# Altium schematic symbol library Capacitors-0402.SchLib: 34 symbols
Pins are listed as number, name and electrical type; pins without a type are passive.

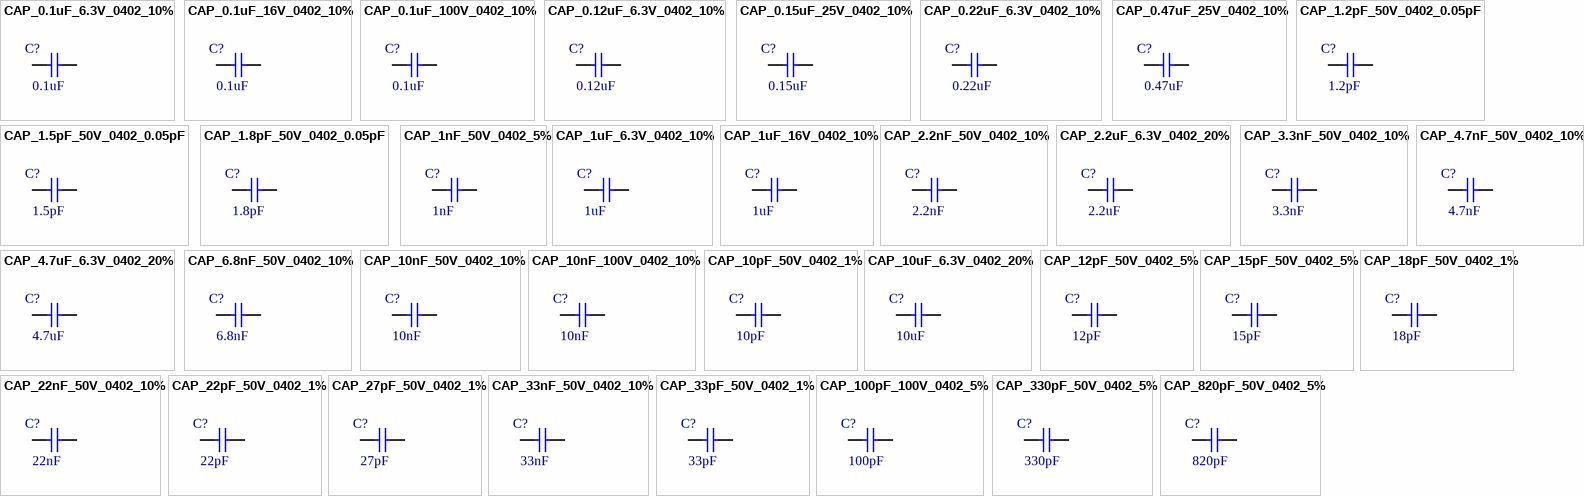
[diagram p0: symbols CAP_0.1uF_6.3V_0402_10% to CAP_820pF_50V_0402_5%]

## CAP_0.1uF_6.3V_0402_10%
designator C?, comment value 0.1uF  (hidden comment: 0.1uF 6.3V 0402)
0.1uF 6.3V 10% 0402 (1005 Metric); PartNumber: GRM155R70J104KA01D; Manufacturer: Murata; Mounting Technology: Surface Mount; PackageReference: 0402; PackageDescription: 0402 (1005 Metric); Voltage: 6.3V; Tolerance: 10%
footprint C0402[1005X55] (Chip Capacitor, Body 1.0x0.5mm)
pins: 1, 2

## CAP_0.1uF_16V_0402_10%
designator C?, comment value 0.1uF  (hidden comment: 0.1uF 16V 0402)
0.1uF 16V 10% 0402 (1005 Metric); PartNumber: GRM155R70J104KA01D; Manufacturer: Murata; Voltage: 6.3V; Mounting Technology: Surface Mount; PackageReference: 0402; PackageDescription: 0402 (1005 Metric); Tolerance: 10%
footprint C0402[1005X55] (Chip Capacitor, Body 1.0x0.5mm)
pins: 1, 2

## CAP_0.1uF_100V_0402_10%
designator C?, comment value 0.1uF  (hidden comment: 0.1uF 100V 0402)
0.1uF 100V 10% 0402 (1005 Metric); PartNumber: GRM155R62A104KE14D; Manufacturer: Murata; Mounting Technology: Surface Mount; PackageReference: 0402; PackageDescription: 0402 (1005 Metric); Voltage: 100V; Tolerance: 10%
footprint C0402[1005X55] (Chip Capacitor, Body 1.0x0.5mm)
pins: 1, 2

## CAP_0.12uF_6.3V_0402_10%
designator C?, comment value 0.12uF  (hidden comment: 0.12uF 6.3V 0402)
0.12uF 6.3V 10% 0402 (1005 Metric); PartNumber: GRM155R60J124KE01D; Manufacturer: Murata; Mounting Technology: Surface Mount; PackageReference: 0402; PackageDescription: 0402 (1005 Metric); Voltage: 6.3V; Tolerance: 10%
footprint C0402[1005X55] (Chip Capacitor, Body 1.0x0.5mm)
pins: 1, 2

## CAP_0.15uF_25V_0402_10%
designator C?, comment value 0.15uF  (hidden comment: 0.15uF 25V 0402)
0.15uF 25V 10% 0402 (1005 Metric); PartNumber: C1005X6S1E154K050BC; Manufacturer: TDK; Mounting Technology: Surface Mount; PackageReference: 0402; PackageDescription: 0402 (1005 Metric); Voltage: 25V; Tolerance: 10%
footprint C0402[1005X55] (Chip Capacitor, Body 1.0x0.5mm)
pins: 1, 2

## CAP_0.22uF_6.3V_0402_10%
designator C?, comment value 0.22uF  (hidden comment: 0.22uF 6.3V 0402)
0.22uF 6.3V 10% 0402 (1005 Metric); PartNumber: JMK105BJ224KV-F; Manufacturer: Taiyo Yuden; Mounting Technology: Surface Mount; PackageReference: 0402; PackageDescription: 0402 (1005 Metric); Voltage: 6.3V; Tolerance: 10%
footprint C0402[1005X55] (Chip Capacitor, Body 1.0x0.5mm)
pins: 1, 2

## CAP_0.47uF_25V_0402_10%
designator C?, comment value 0.47uF  (hidden comment: 0.47uF 25V 0402)
0.47uF 25V 10% 0402 (1005 Metric); PartNumber: GRM155R61E474KE01D; Manufacturer: Murata; Mounting Technology: Surface Mount; PackageReference: 0402; PackageDescription: 0402 (1005 Metric); Voltage: 25V; Tolerance: 10%
footprint C0402[1005X55] (Chip Capacitor, Body 1.0x0.5mm)
pins: 1, 2

## CAP_1.2pF_50V_0402_0.05pF
designator C?, comment value 1.2pF  (hidden comment: 1.2pF 50V 0402)
1.2pF 50V 0.05pF 0402 (1005 Metric); PartNumber: GRM1555C1H1R2WA01D; Manufacturer: Murata; Mounting Technology: Surface Mount; PackageReference: 0402; PackageDescription: 0402 (1005 Metric); Voltage: 50V; Tolerance: 0.05pF
footprint C0402[1005X55] (Chip Capacitor, Body 1.0x0.5mm)
pins: 1, 2

## CAP_1.5pF_50V_0402_0.05pF
designator C?, comment value 1.5pF  (hidden comment: 1.5pF 50V 0402)
1.5pF 50V 0.05pF 0402 (1005 Metric); PartNumber: GRM1555C1H1R5WA01D; Manufacturer: Murata; Mounting Technology: Surface Mount; PackageReference: 0402; PackageDescription: 0402 (1005 Metric); Voltage: 50V; Tolerance: 0.05pF
footprint C0402[1005X55] (Chip Capacitor, Body 1.0x0.5mm)
pins: 1, 2

## CAP_1.8pF_50V_0402_0.05pF
designator C?, comment value 1.8pF  (hidden comment: 1.8pF 50V 0402)
1.8pF 50V 0.05pF 0402 (1005 Metric); PartNumber: GRM1555C1H1R8WA01D; Manufacturer: Murata; Mounting Technology: Surface Mount; PackageReference: 0402; PackageDescription: 0402 (1005 Metric); Voltage: 50V; Tolerance: 0.05pF
footprint C0402[1005X55] (Chip Capacitor, Body 1.0x0.5mm)
pins: 1, 2

## CAP_1nF_50V_0402_5%
designator C?, comment value 1nF  (hidden comment: 1nF 50V 0402)
1nF 50V 5% 0402 (1005 Metric); PartNumber: GRM1555C1H102JA01D; Manufacturer: Murata; Mounting Technology: Surface Mount; PackageReference: 0402; PackageDescription: 0402 (1005 Metric); Voltage: 50V; Tolerance: 5%
footprint C0402[1005X55] (Chip Capacitor, Body 1.0x0.5mm)
pins: 1, 2

## CAP_1uF_6.3V_0402_10%
designator C?, comment value 1uF  (hidden comment: 1uF 6.3V 0402)
1uF 6.3V 10% 0402 (1005 Metric); PartNumber: GRM155R70J105KA12D; Manufacturer: Murata; Mounting Technology: Surface Mount; PackageReference: 0402; PackageDescription: 0402 (1005 Metric); Voltage: 6.3V; Tolerance: 10%
footprint C0402[1005X55] (Chip Capacitor, Body 1.0x0.5mm)
pins: 1, 2

## CAP_1uF_16V_0402_10%
designator C?, comment value 1uF  (hidden comment: 1uF 16V 0402)
1uF 16V 10% 0402 (1005 Metric); PartNumber: GRM155R61C105KE01D; Manufacturer: Murata; Mounting Technology: Surface Mount; PackageReference: 0402; PackageDescription: 0402 (1005 Metric); Voltage: 16V; Tolerance: 10%
footprint C0402[1005X55] (Chip Capacitor, Body 1.0x0.5mm)
pins: 1, 2

## CAP_2.2nF_50V_0402_10%
designator C?, comment value 2.2nF  (hidden comment: 2.2nF 50V 0402)
2.2nF 50V 10% 0402 (1005 Metric); PartNumber: GCM155R71H222KA37D; Manufacturer: Murata; Mounting Technology: Surface Mount; PackageReference: 0402; PackageDescription: 0402 (1005 Metric); Voltage: 50V; Tolerance: 10%
footprint C0402[1005X55] (Chip Capacitor, Body 1.0x0.5mm)
pins: 1, 2

## CAP_2.2uF_6.3V_0402_20%
designator C?, comment value 2.2uF  (hidden comment: 2.2uF 6.3V 0402)
2.2uF 6.3V 20% 0402 (1005 Metric); PartNumber: GRM155R60J225ME15D; Manufacturer: Murata; Mounting Technology: Surface Mount; PackageReference: 0402; PackageDescription: 0402 (1005 Metric); Voltage: 6.3V; Tolerance: 20%
footprint C0402[1005X55] (Chip Capacitor, Body 1.0x0.5mm)
pins: 1, 2

## CAP_3.3nF_50V_0402_10%
designator C?, comment value 3.3nF  (hidden comment: 3.3nF 50V 0402)
3.3nF 50V 10% 0402 (1005 Metric); PartNumber: GRM155R71H332KA01D; Manufacturer: Murata; Mounting Technology: Surface Mount; PackageReference: 0402; PackageDescription: 0402 (1005 Metric); Voltage: 50V; Tolerance: 10%
footprint C0402[1005X55] (Chip Capacitor, Body 1.0x0.5mm)
pins: 1, 2

## CAP_4.7nF_50V_0402_10%
designator C?, comment value 4.7nF  (hidden comment: 4.7nF 50V 0402)
4.7nF 50V 10% 0402 (1005 Metric); PartNumber: GRM155R71H472KA01D; Manufacturer: Murata; Mounting Technology: Surface Mount; PackageReference: 0402; PackageDescription: 0402 (1005 Metric); Voltage: 50V; Tolerance: 10%
footprint C0402[1005X55] (Chip Capacitor, Body 1.0x0.5mm)
pins: 1, 2

## CAP_4.7uF_6.3V_0402_20%
designator C?, comment value 4.7uF  (hidden comment: 4.7uF 6.3V 0402)
4.7uF 6.3V 20% 0402 (1005 Metric); PartNumber: GRM155R60J475ME47D; Manufacturer: Murata; Mounting Technology: Surface Mount; PackageReference: 0402; PackageDescription: 0402 (1005 Metric); Voltage: 6.3V; Tolerance: 20%
footprint C0402[1005X55] (Chip Capacitor, Body 1.0x0.5mm)
pins: 1, 2

## CAP_6.8nF_50V_0402_10%
designator C?, comment value 6.8nF  (hidden comment: 6.8nF 50V 0402)
6.8nF 50V 10% 0402 (1005 Metric); PartNumber: GRM155R71H682KA88J; Manufacturer: Murata; Mounting Technology: Surface Mount; PackageReference: 0402; PackageDescription: 0402 (1005 Metric); Voltage: 50V; Tolerance: 10%
footprint C0402[1005X55] (Chip Capacitor, Body 1.0x0.5mm)
pins: 1, 2

## CAP_10nF_50V_0402_10%
designator C?, comment value 10nF  (hidden comment: 10nF 50V 0402)
10nF 50V 10% 0402 (1005 Metric); PartNumber: GCM155R71H103KA55D; Manufacturer: Murata; Mounting Technology: Surface Mount; PackageReference: 0402; PackageDescription: 0402 (1005 Metric); Voltage: 50V; Tolerance: 10%
footprint C0402[1005X55] (Chip Capacitor, Body 1.0x0.5mm)
pins: 1, 2

## CAP_10nF_100V_0402_10%
designator C?, comment value 10nF  (hidden comment: 10nF 100V 0402)
10nF 100V 10% 0402 (1005 Metric); PartNumber: C1005X7S2A103K050BB; Manufacturer: TDK; Mounting Technology: Surface Mount; PackageReference: 0402; PackageDescription: 0402 (1005 Metric); Voltage: 100V; Tolerance: 10%
footprint C0402[1005X55] (Chip Capacitor, Body 1.0x0.5mm)
pins: 1, 2

## CAP_10pF_50V_0402_1%
designator C?, comment value 10pF  (hidden comment: 10pF 50V 0402)
10pF 50V 1% 0402 (1005 Metric); PartNumber: GRM1555C1H100FA01D; Manufacturer: Murata; Mounting Technology: Surface Mount; PackageReference: 0402; PackageDescription: 0402 (1005 Metric); Voltage: 50V; Tolerance: 1%
footprint C0402[1005X55] (Chip Capacitor, Body 1.0x0.5mm)
pins: 1, 2

## CAP_10uF_6.3V_0402_20%
designator C?, comment value 10uF  (hidden comment: 10uF 6.3V 0402)
10uF 6.3V 20% 0402 (1005 Metric); PartNumber: GRM155R60J106ME44D; Manufacturer: Murata; Mounting Technology: Surface Mount; PackageReference: 0402; PackageDescription: 0402 (1005 Metric); Voltage: 6.3V; Tolerance: 20%
footprint C0402[1005X55] (Chip Capacitor, Body 1.0x0.5mm)
pins: 1, 2

## CAP_12pF_50V_0402_5%
designator C?, comment value 12pF  (hidden comment: 12pF 50V 0402)
12pF 50V 5% 0402 (1005 Metric); PartNumber: GRM1555C1H120JA01D; Manufacturer: Murata; Mounting Technology: Surface Mount; PackageReference: 0402; PackageDescription: 0402 (1005 Metric); Voltage: 50V; Tolerance: 5%
footprint C0402[1005X55] (Chip Capacitor, Body 1.0x0.5mm)
pins: 1, 2

## CAP_15pF_50V_0402_5%
designator C?, comment value 15pF  (hidden comment: 15pF 50V 0402)
15pF 50V 5% 0402 (1005 Metric); PartNumber: GRM1555C1H150JA01D; Manufacturer: Murata; Mounting Technology: Surface Mount; PackageReference: 0402; PackageDescription: 0402 (1005 Metric); Voltage: 50V; Tolerance: 5%
footprint C0402[1005X55] (Chip Capacitor, Body 1.0x0.5mm)
pins: 1, 2

## CAP_18pF_50V_0402_1%
designator C?, comment value 18pF  (hidden comment: 18pF 50V 0402)
18pF 50V 1% 0402 (1005 Metric); PartNumber: GRM1555C1H180FA01D; Manufacturer: Murata; Mounting Technology: Surface Mount; PackageReference: 0402; PackageDescription: 0402 (1005 Metric); Voltage: 50V; Tolerance: 1%
footprint C0402[1005X55] (Chip Capacitor, Body 1.0x0.5mm)
pins: 1, 2

## CAP_22nF_50V_0402_10%
designator C?, comment value 22nF  (hidden comment: 22nF 50V 0402)
22nF 50V 10% 0402 (1005 Metric); PartNumber: GRM155R71H223KA12J; Manufacturer: Murata; Mounting Technology: Surface Mount; PackageReference: 0402; PackageDescription: 0402 (1005 Metric); Voltage: 50V; Tolerance: 10%
footprint C0402[1005X55] (Chip Capacitor, Body 1.0x0.5mm)
pins: 1, 2

## CAP_22pF_50V_0402_1%
designator C?, comment value 22pF  (hidden comment: 22pF 50V 0402)
22pF 50V 1% 0402 (1005 Metric); PartNumber: GRM1555C1H220FA01D; Manufacturer: Murata; Mounting Technology: Surface Mount; PackageReference: 0402; PackageDescription: 0402 (1005 Metric); Voltage: 50V; Tolerance: 1%
footprint C0402[1005X55] (Chip Capacitor, Body 1.0x0.5mm)
pins: 1, 2

## CAP_27pF_50V_0402_1%
designator C?, comment value 27pF  (hidden comment: 27pF 50V 0402)
27pF 50V 1% 0402 (1005 Metric); PartNumber: GRM1555C1H270FA01D; Manufacturer: Murata; Mounting Technology: Surface Mount; PackageReference: 0402; PackageDescription: 0402 (1005 Metric); Voltage: 50V; Tolerance: 1%
footprint C0402[1005X55] (Chip Capacitor, Body 1.0x0.5mm)
pins: 1, 2

## CAP_33nF_50V_0402_10%
designator C?, comment value 33nF  (hidden comment: 33nF 50V 0402)
33nF 50V 10% 0402 (1005 Metric); PartNumber: GRM155R71H333KE14D; Manufacturer: Murata; Mounting Technology: Surface Mount; PackageReference: 0402; PackageDescription: 0402 (1005 Metric); Voltage: 50V; Tolerance: 10%
footprint C0402[1005X55] (Chip Capacitor, Body 1.0x0.5mm)
pins: 1, 2

## CAP_33pF_50V_0402_1%
designator C?, comment value 33pF  (hidden comment: 33pF 50V 0402)
33pF 50V 1% 0402 (1005 Metric); PartNumber: GCM1555C1H330FA16D; Manufacturer: Murata; Mounting Technology: Surface Mount; PackageReference: 0402; PackageDescription: 0402 (1005 Metric); Voltage: 50V; Tolerance: 1%
footprint C0402[1005X55] (Chip Capacitor, Body 1.0x0.5mm)
pins: 1, 2

## CAP_100pF_100V_0402_5%
designator C?, comment value 100pF  (hidden comment: 100pF 100V 0402)
100pF 100V 5% 0402 (1005 Metric); PartNumber: GRM1555C2A101JA01D; Manufacturer: Murata; Mounting Technology: Surface Mount; PackageReference: 0402; PackageDescription: 0402 (1005 Metric); Voltage: 100V; Tolerance: 5%
footprint C0402[1005X55] (Chip Capacitor, Body 1.0x0.5mm)
pins: 1, 2

## CAP_330pF_50V_0402_5%
designator C?, comment value 330pF  (hidden comment: 330pF 50V 0402)
330pF 50V 5% 0402 (1005 Metric); PartNumber: GRM1555C1H331JA01D; Manufacturer: Murata; Mounting Technology: Surface Mount; PackageReference: 0402; PackageDescription: 0402 (1005 Metric); Voltage: 50V; Tolerance: 5%
footprint C0402[1005X55] (Chip Capacitor, Body 1.0x0.5mm)
pins: 1, 2

## CAP_820pF_50V_0402_5%
designator C?, comment value 820pF  (hidden comment: 820pF 50V 0402)
820pF 50V 5% 0402 (1005 Metric); PartNumber: GRM1555C1H821JA01D; Manufacturer: Murata; Mounting Technology: Surface Mount; PackageReference: 0402; PackageDescription: 0402 (1005 Metric); Voltage: 50V; Tolerance: 5%
footprint C0402[1005X55] (Chip Capacitor, Body 1.0x0.5mm)
pins: 1, 2